# EAGLE library part ATX209 (library ATX209)
Panasonic DPDT Non-Latching Relay PCB Mount, 5V dc Coil, 2 A Source: Datasheet <https://pdf1.alldatasheet.com/datasheet-pdf/view/117941/NAIS/TX2-5V.html>
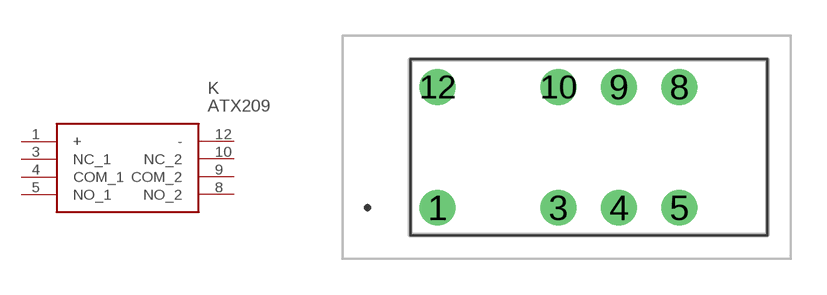
[diagram p0: symbol with the pads of ATX209; footprint ATX209]

Designator prefix K

## ATX209 (Description: Panasonic DPDT Non-Latching Relay PCB Mount, 5V dc Coil, 2 A; Height: 8.2mm; Manufacturer_Name: Panasonic; Manufacturer_Part_Number: ATX209)  [ATX209]
1  +
3  NC_1
4  COM_1
5  NO_1
8  NO_2
9  COM_2
10  NC_2
12  -

## Footprint ATX209 (pad centres in mm)
ATX209-3
drill 1 pad 1.5: 1 0,0; 3 5.08,0; 4 7.62,0; 5 10.16,0; 8 10.16,5.08; 9 7.62,5.08; 10 5.08,5.08; 12 0,5.08